# Altium footprint library ecubelib.PcbLib: 9 footprints
Each footprint in its own frame and in the unit in brackets; x right, y up, seen from the top. Pads: shape width x height; smd on the part's side, far side on the other; paste and mask are expansions set on the pad; w line width, h text height; cw(c..) or ccw(c..) is an arc to the next point about the centre after c.
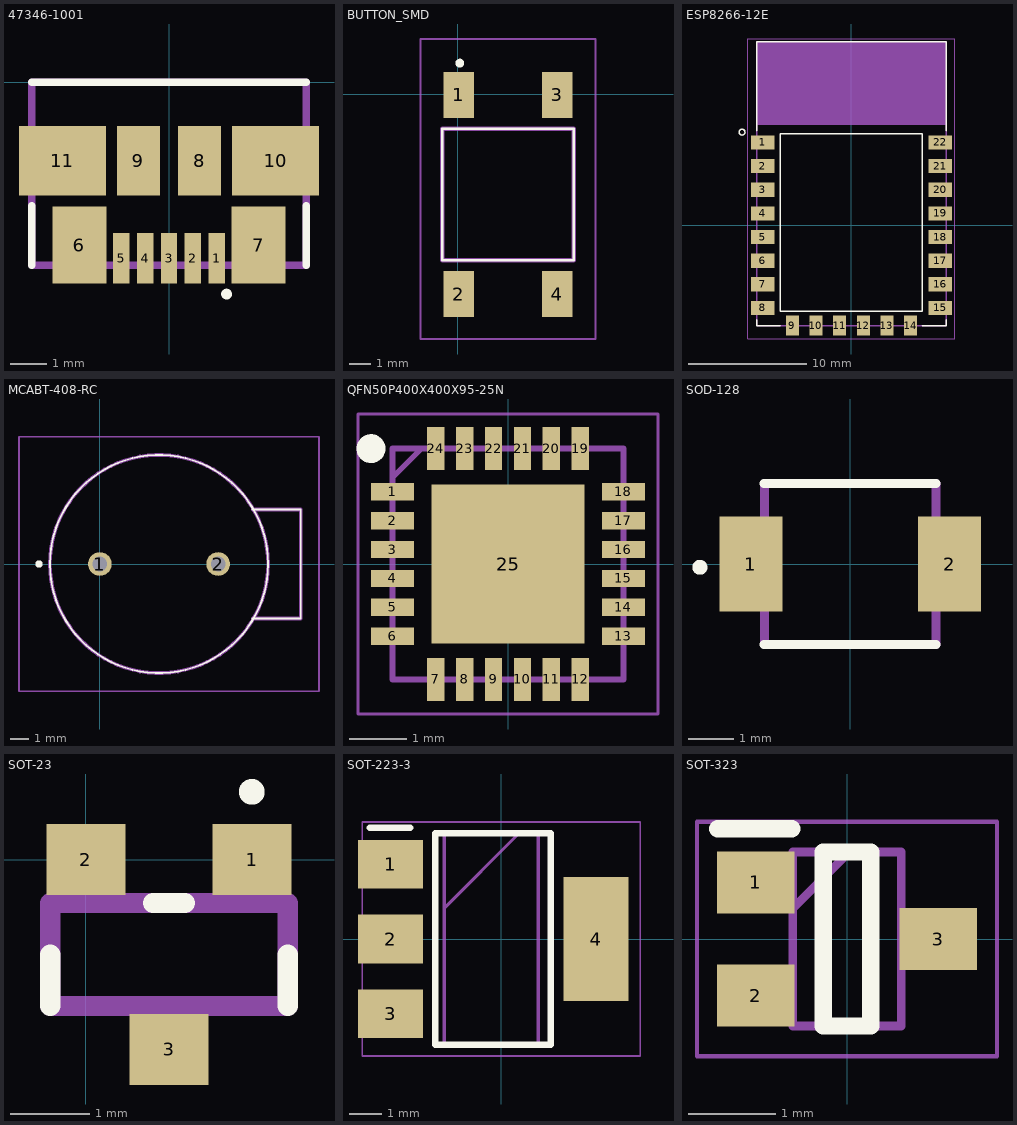
[diagram p0: the footprints below, top view; thin cyan lines are the x and y axes]

## 47346-1001 [mm] "USB Tipo B Montaje Superficial"
pads (11):
  rect 0.45x1.38 smd: 1(1.3,-4.81) 2(0.65,-4.81) 3(0,-4.81) 4(-0.65,-4.81) 5(-1.3,-4.81)
  rect 1.475x2.1 smd: 6(-2.452,-4.45) 7(2.452,-4.45)
  rect 1.175x1.9 smd: 8(0.837,-2.15) 9(-0.837,-2.15)
  rect 2.375x1.9 smd: 10(2.913,-2.15) 11(-2.913,-2.15)
Top Overlay:
  circle w0.2: c1.572,-5.79 r0.046
  lines w0.2: -3.75,-5 -3.75,-3.373 ; -3.75,0 3.75,0 ; 3.75,-5 3.75,-3.373
Mechanical 15:
  lines w0.2: -3.75,-5 -3.75,0 3.75,0 3.75,-5 -3.75,-5

## BUTTON_SMD [mm]
pads (4):
  rect 1.4x2.1 smd: 1(0.036,-0.035) 2(0.036,-9.135) 3(4.536,-0.035) 4(4.536,-9.135)
Top Overlay:
  lines w0.1: -0.714,-7.585 5.286,-7.585 5.286,-1.585 -0.714,-1.585 -0.714,-7.585
  lines w0.2: -0.014,1.415 cw(c0.086,1.415) 0.186,1.415 cw(c0.086,1.415) -0.014,1.415
Mechanical 15:
  lines w0.2: -0.714,-7.585 5.286,-7.585 5.286,-1.585 -0.714,-1.585 -0.714,-7.585
Mechanical 20:
  lines w0.1: -1.714,-11.185 6.286,-11.185 6.286,2.515 -1.714,2.515 -1.714,-11.185
3D body: height 1.27, standoff 0, extent -0.762,-7.62 5.207,-1.651
3D body: height 2.03, standoff 0, extent 0.191,-6.667 4.255,-2.603

## ESP8266-12E [mm]
pads (22):
  rect 2x1.2 smd: 1(-7.5,7) 2(-7.5,5) 3(-7.5,3) 4(-7.5,1) 5(-7.5,-1) 6(-7.5,-3) 7(-7.5,-5) 8(-7.5,-7) 15(7.5,-7) 16(7.5,-5) 17(7.5,-3) 18(7.5,-1) 19(7.5,1) 20(7.5,3) 21(7.5,5) 22(7.5,7)
  rect 1.1x1.7 smd: 9(-5,-8.5) 10(-3,-8.5) 11(-1,-8.5) 12(1,-8.5) 13(3,-8.5) 14(5,-8.5)
Top Overlay:
  circle w0.127: c-9.25,7.875 r0.25
  lines w0.127: -8,-8 -8,-8.5 -6,-8.5 ; -8,8 -8,15.5 8,15.5 8,8 ; 6,-8.5 8,-8.5 8,-8 ; -6,-7.26 6,-7.26 6,7.74 -6,7.74 -6,-7.26
Mechanical 1:
  region: -8.009,15.5 8,15.5 8,8.51 -8.009,8.51
  region: -8.009,15.5 8,15.5 8,8.51 -8.009,8.51
  lines w0.127: -8,-8.5 8,-8.5 8,15.5 -8,15.5 -8,-8.5
Mechanical 4:
  lines w0.05: -8.75,-9.625 8.75,-9.625 8.75,15.75 -8.75,15.75 -8.75,-9.625

## MCABT-408-RC [mm]
pads (2):
  round 1.3 hole 0.8: 1(0,0) 2(6.5,0)
Top Overlay:
  lines w0.1: 8.4,-3 11.05,-3 11.05,3 10.87,3 8.4,3 ; -2.75,0 ccw(c3.25,0) 9.25,0 ccw(c3.25,0) -2.75,0
  lines w0.2: -3.35,-0.1 cw(c-3.35,0) -3.35,0.1 cw(c-3.35,0) -3.35,-0.1
Mechanical 15:
  lines w0.2: 8.4,-3 11.05,-3 11.05,3 8.4,3 ; -2.75,0 ccw(c3.25,0) 9.25,0 ccw(c3.25,0) -2.75,0
Mechanical 20:
  lines w0.1: -4.45,-7 -4.45,7 12.05,7 12.05,-7 -4.45,-7
3D body: height 1.27, standoff 0, extent 9.017,0.064 9.017,0.064
3D body: height 1.27, standoff 0, extent 9.652,0.762 9.652,0.762
3D body: height 3.81, standoff 0, extent 3.302,-3.048 10.922,3.048
3D body: height 5.08, standoff 0, extent -1.778,-4.953 8.382,5.207
3D body: height 1.27, standoff 0, extent 0,0 0,0

## QFN50P400X400X95-25N [mm]
pads (25):
  rect 0.75x0.3 smd: 1(-2,1.25) 2(-2,0.75) 3(-2,0.25) 4(-2,-0.25) 5(-2,-0.75) 6(-2,-1.25) 13(2,-1.25) 14(2,-0.75) 15(2,-0.25) 16(2,0.25) 17(2,0.75) 18(2,1.25)
  rect 0.3x0.75 smd: 7(-1.25,-2) 8(-0.75,-2) 9(-0.25,-2) 10(0.25,-2) 11(0.75,-2) 12(1.25,-2) 19(1.25,2) 20(0.75,2) 21(0.25,2) 22(-0.25,2) 23(-0.75,2) 24(-1.25,2)
  rect 2.65x2.75 smd: 25(0,0)
Top Overlay:
  circle w0.25: c-2.375,2 r0.125
Mechanical 15:
  lines w0.1: -2,1.5 -1.5,2 ; -2,-2 -2,2 2,2 2,-2 -2,-2
Mechanical 20:
  lines w0.05: -2.6,-2.6 -2.6,2.6 2.6,2.6 2.6,-2.6 -2.6,-2.6
3D body "MPU-6050.stp": height 0.95, standoff 0, extent -2.05,-2.05 2.05,2.05
3D body: height 0.95, standoff 0, extent 0,0 0,0

## SOD-128 [mm]
pads (2):
  rect 1.4x2.1 smd: 1(-2.2,0) 2(2.2,0)
Top Overlay:
  circle w0.2: c-3.328,-0.073 r0.065
  lines w0.2: -1.905,-1.778 1.895,-1.778 ; -1.905,1.778 1.895,1.778
Mechanical 15:
  lines w0.2: -1.9,-1.778 1.9,-1.778 1.9,1.778 -1.9,1.778 -1.9,-1.778
3D body: height 1.08, standoff 0, extent -1.905,-1.778 1.905,1.778

## SOT-23 [mm]
pads (3):
  rect 1x0.9 smd: 1(2.1,0) 2(0,0) 3(1.05,-2.4)
Top Overlay:
  circle w0.254: c2.096,0.855 r0.036
  lines w0.254: -0.45,-1.85 -0.45,-1.2 ; 0.85,-0.55 1.25,-0.55 ; 2.55,-1.85 2.55,-1.2
Mechanical 15:
  lines w0.254: -0.45,-1.85 -0.45,-0.55 2.55,-0.55 2.55,-1.85 -0.45,-1.85
3D body: height 1.27, standoff 0, extent -0.508,-0.381 -0.508,-0.381
3D body: height 1.27, standoff 0, extent -0.508,-1.905 2.54,-0.635

## SOT-223-3 [mil]
pads (4):
  rect 79x59 smd: 1(-133.86,90.55) 2(-133.86,0) 3(-133.86,-90.55)
  rect 79x150 smd: 4(115,0)
Top Overlay:
  lines w7.87: -159.21,135 -110,135 ; -80,-127.95 -80,127.95 60,127.95 60,63.98 60,-63.98 60,-127.95 -80,-127.95
Mechanical 15:
  lines w3.94: -68.9,37.4 21.65,127.95 ; -68.9,-127.95 -68.9,127.95 45,127.95 45,-127.95 -68.9,-127.95
Mechanical 20:
  lines w1.97: -168.31,-141.73 -168.31,141.73 168.31,141.73 168.31,-141.73 -168.31,-141.73
3D body: height 50, standoff 0, extent -80,-130 60,125

## SOT-323 [mil]
pads (3):
  rect 35x28 smd: 1(-41.34,25.59) 2(-41.34,-25.59) 3(41.34,0)
Top Overlay:
  lines w7.87: -58.46,50 -25,50 ; -10.83,-39.37 10.83,-39.37 10.83,39.37 -10.83,39.37 -10.83,-39.37
Mechanical 15:
  lines w3.94: -24.61,13.78 0.98,39.37 ; -24.61,-39.37 24.61,-39.37 24.61,39.37 -24.61,39.37 -24.61,-39.37
Mechanical 20:
  lines w1.97: -67.91,-53.15 67.91,-53.15 67.91,53.15 -67.91,53.15 -67.91,-53.15
3D body "SBC846BWT1G.stp": height 42.52, standoff 0, extent -41.33,-39.36 41.34,39.37